# EAGLE library part MULTIOSC (library my_relai)
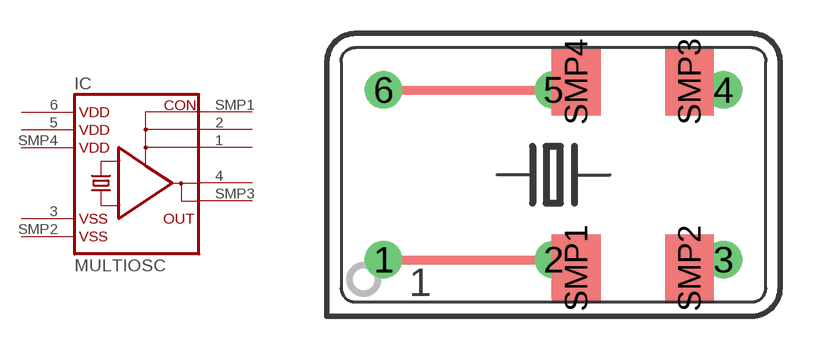
[diagram p21: symbol with the pads of MULTIOSC; footprint MULTIOSC]

Designator prefix IC

## MULTIOSC  [MULTIOSC]
1  CON  in
2  CON1  in
3  VSS  pwr
4  OUT  out
5  VDD1  pwr
6  VDD  pwr
SMP1  CON2  in
SMP2  VSS1  pwr
SMP3  OUT1  out
SMP4  VDD2  pwr

## Footprint MULTIOSC (pad centres in mm)
drill 0.6 pad 1.676: 1 -7.62,-3.81; 2 0,-3.81; 3 7.62,-3.81; 4 7.62,3.81; 5 0,3.81; 6 -7.62,3.81
smd 2.184 x 3.048: SMP1 1.016,-4.191; SMP2 6.096,-4.191; SMP3 6.096,4.191; SMP4 1.016,4.191